# Altium integrated library Linear Technology Power Management Switching Regulator LTC1174-LTC3901.IntLib: 2647 symbols (part 222 of 364)
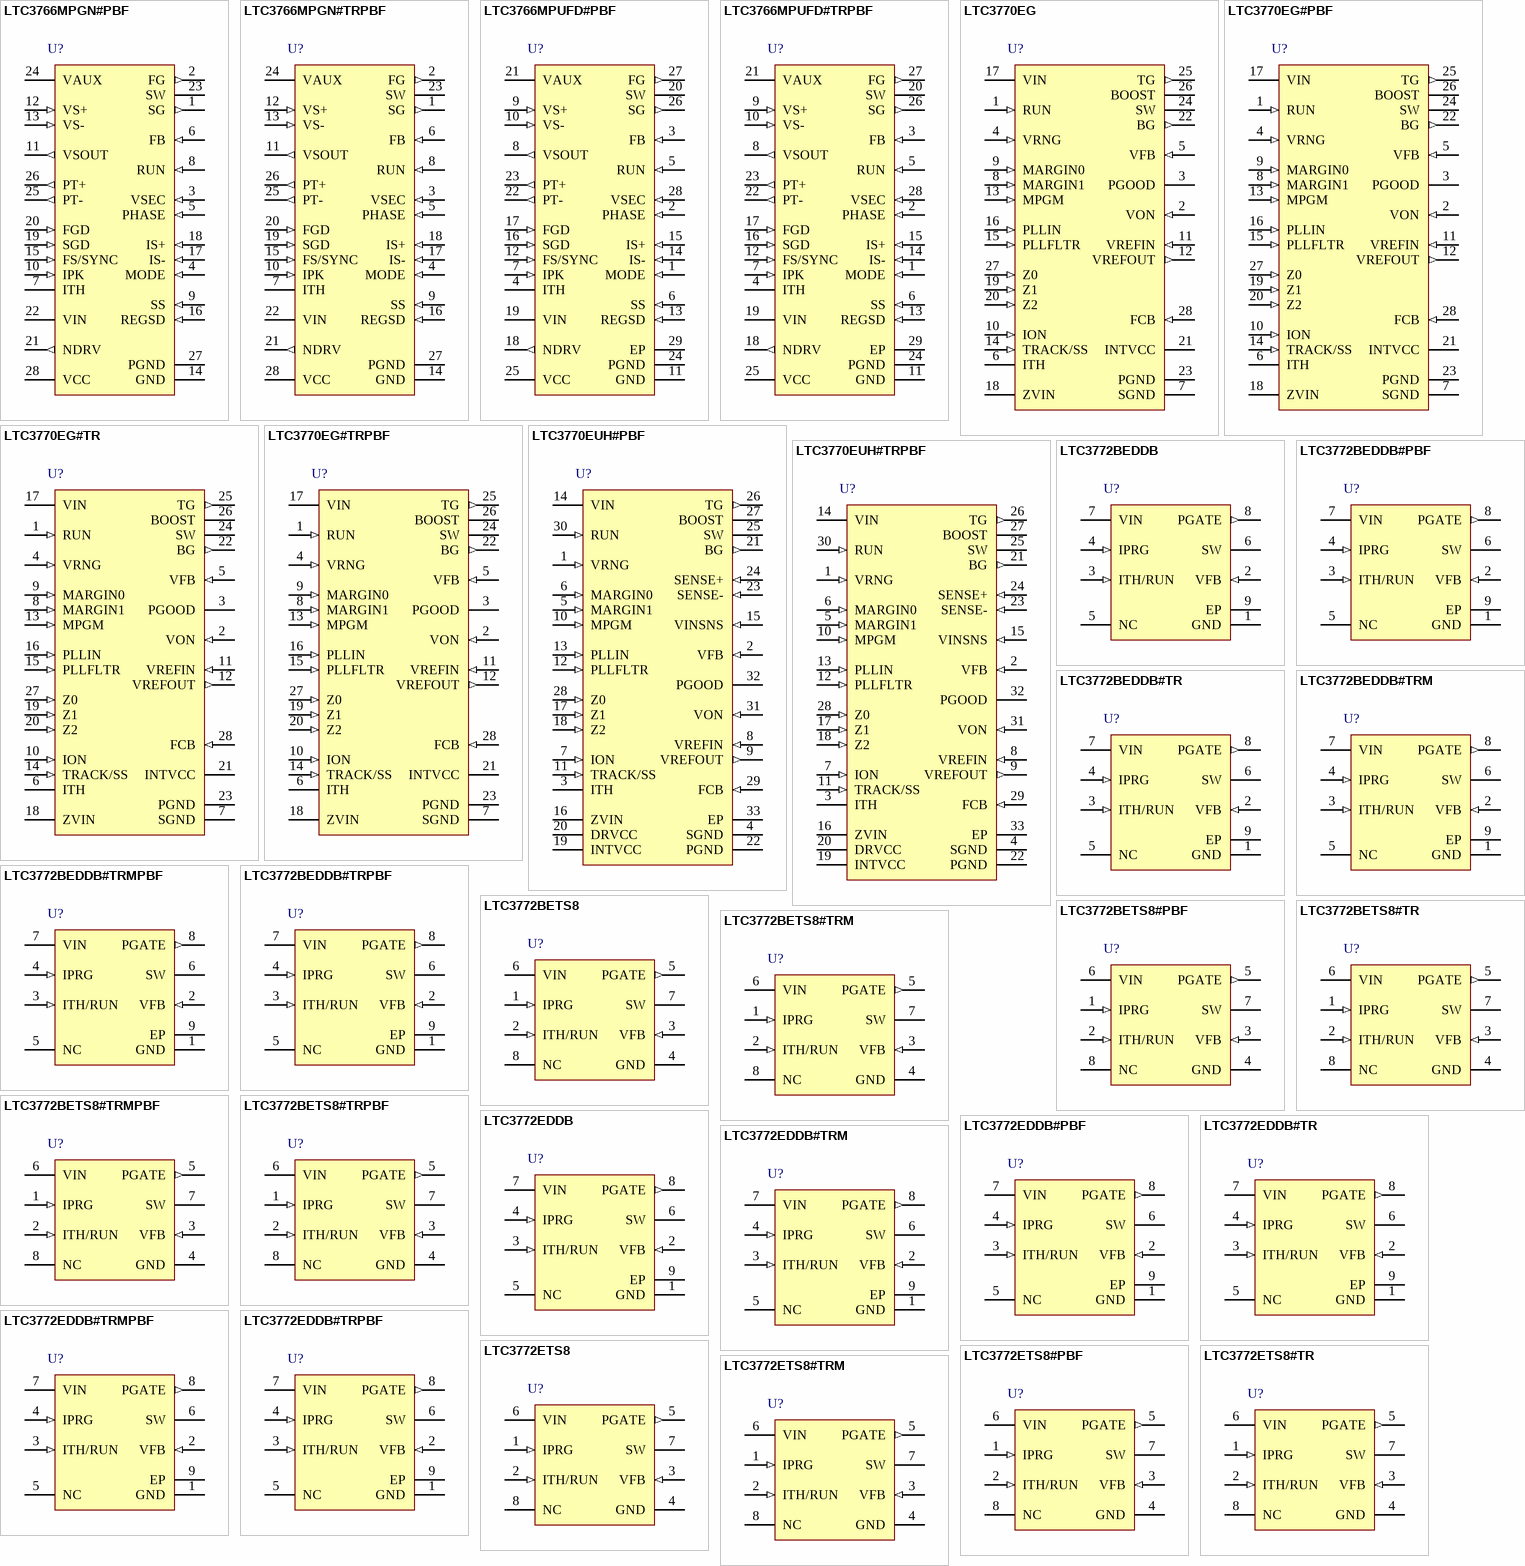
[diagram p230: symbols LTC3766MPGN#PBF to LTC3772ETS8#TRM]

## LTC3772EDDB#TR
designator U?
Micropower No Rsense Constant Frequency Step-Down DC/DC Controller, 8-pin SON (DDB-8), -40 to 85 degC, Tape and Reel; Manufacturer: Linear Technology; PartNumber: LTC3772EDDB#TR; Number of Outputs: 1; PackageVersion: Rev. B, 06/2010; PackageReference: DDB-8; PackageDescription: 8-Pin Plastic DFN, Body 3 x 2 mm, Pitch 0.5 mm; Packing: Tape and Reel; RoHS: FALSE; Mounting Technology: Surface Mount; Code_JEDEC: MO-229; ComponentLink1Description: Manufacturer URL; ComponentLink1URL: http://www.linear.com/; ComponentLink2Description: Datasheet; ComponentLink2URL: http://cds.linear.com/docs/en/datasheet/3772f.pdf; ComponentLink3Description: Package Specification; ComponentLink3URL: http://cds.linear.com/docs/en/packaging/DFN_8_05-08-1702.pdf
footprint LT-DDB-8_V (SON, 8-Leads, Body 3x2mm, Pitch 0.5mm, Thermal Pad 2.2x0.61mm)
pins: 1 GND (power) "Ground Pin.", 2 VFB (in) "Receives the feedback voltage from an external resistor divider across the output.", 3 ITH/RUN (in) "This pin performs two functions. It serves as the error amplifier compensation point as well as the run control input. Nominal voltage range for this pin is 0.7V to 1.9V. Forcing this pin below 0.6V causes the device to be (See Datasheet)", 4 IPRG (in) "Shutdown and external soft-start pin. In shutdown, all functions are disabled and the NGATE pin is held low.", 5 NC "No Connection Required.", 6 SW "Switch Node Connection to Inductor and Current Sense Input Pin. Normally, the external P-channel MOSFET’s drain is connected to this pin.", 7 VIN (power) "Supply and Current Sense Input Pin. This pin must be closely decoupled to GND (Pin 4). Normally the external P-channel MOSFET’s source is connected to this pin.", 8 PGATE (out) "Gate Drive for the External P-Channel MOSFET. This pin swings from 0V to VIN.", 9 EP (power) "The Exposed Pad is ground and must be soldered to the PCB for electrical connection and optimum thermal performance."

## LTC3772EDDB#TRM
designator U?
Micropower No Rsense Constant Frequency Step-Down DC/DC Controller, 8-pin SON (DDB-8), -40 to 85 degC, Mini Tape and Reel; Manufacturer: Linear Technology; PartNumber: LTC3772EDDB#TRM; Number of Outputs: 1; PackageVersion: Rev. B, 06/2010; PackageReference: DDB-8; PackageDescription: 8-Pin Plastic DFN, Body 3 x 2 mm, Pitch 0.5 mm; Packing: Mini Tape and Reel; RoHS: FALSE; Mounting Technology: Surface Mount; Code_JEDEC: MO-229; ComponentLink1Description: Manufacturer URL; ComponentLink1URL: http://www.linear.com/; ComponentLink2Description: Datasheet; ComponentLink2URL: http://cds.linear.com/docs/en/datasheet/3772f.pdf; ComponentLink3Description: Package Specification; ComponentLink3URL: http://cds.linear.com/docs/en/packaging/DFN_8_05-08-1702.pdf
footprint LT-DDB-8_V (SON, 8-Leads, Body 3x2mm, Pitch 0.5mm, Thermal Pad 2.2x0.61mm)
pins: 1 GND (power) "Ground Pin.", 2 VFB (in) "Receives the feedback voltage from an external resistor divider across the output.", 3 ITH/RUN (in) "This pin performs two functions. It serves as the error amplifier compensation point as well as the run control input. Nominal voltage range for this pin is 0.7V to 1.9V. Forcing this pin below 0.6V causes the device to be (See Datasheet)", 4 IPRG (in) "Shutdown and external soft-start pin. In shutdown, all functions are disabled and the NGATE pin is held low.", 5 NC "No Connection Required.", 6 SW "Switch Node Connection to Inductor and Current Sense Input Pin. Normally, the external P-channel MOSFET’s drain is connected to this pin.", 7 VIN (power) "Supply and Current Sense Input Pin. This pin must be closely decoupled to GND (Pin 4). Normally the external P-channel MOSFET’s source is connected to this pin.", 8 PGATE (out) "Gate Drive for the External P-Channel MOSFET. This pin swings from 0V to VIN.", 9 EP (power) "The Exposed Pad is ground and must be soldered to the PCB for electrical connection and optimum thermal performance."

## LTC3772EDDB#TRMPBF
designator U?
Micropower No Rsense Constant Frequency Step-Down DC/DC Controller, 8-pin SON (DDB-8), -40 to 85 degC, Pb-Free, Mini Tape and Reel; Manufacturer: Linear Technology; PartNumber: LTC3772EDDB#TRMPBF; Number of Outputs: 1; PackageVersion: Rev. B, 06/2010; PackageReference: DDB-8; PackageDescription: 8-Pin Plastic DFN, Body 3 x 2 mm, Pitch 0.5 mm; Supplier 1: Digi-Key; Supplier Part Number 1: LTC3772EDDB#TRMPBF-ND; Packing: Mini Tape and Reel; RoHS: TRUE; Mounting Technology: Surface Mount; Code_JEDEC: MO-229; ComponentLink1Description: Manufacturer URL; ComponentLink1URL: http://www.linear.com/; ComponentLink2Description: Datasheet; ComponentLink2URL: http://cds.linear.com/docs/en/datasheet/3772f.pdf; ComponentLink3Description: Package Specification; ComponentLink3URL: http://cds.linear.com/docs/en/packaging/DFN_8_05-08-1702.pdf
footprint LT-DDB-8_V (SON, 8-Leads, Body 3x2mm, Pitch 0.5mm, Thermal Pad 2.2x0.61mm)
pins: 1 GND (power) "Ground Pin.", 2 VFB (in) "Receives the feedback voltage from an external resistor divider across the output.", 3 ITH/RUN (in) "This pin performs two functions. It serves as the error amplifier compensation point as well as the run control input. Nominal voltage range for this pin is 0.7V to 1.9V. Forcing this pin below 0.6V causes the device to be (See Datasheet)", 4 IPRG (in) "Shutdown and external soft-start pin. In shutdown, all functions are disabled and the NGATE pin is held low.", 5 NC "No Connection Required.", 6 SW "Switch Node Connection to Inductor and Current Sense Input Pin. Normally, the external P-channel MOSFET’s drain is connected to this pin.", 7 VIN (power) "Supply and Current Sense Input Pin. This pin must be closely decoupled to GND (Pin 4). Normally the external P-channel MOSFET’s source is connected to this pin.", 8 PGATE (out) "Gate Drive for the External P-Channel MOSFET. This pin swings from 0V to VIN.", 9 EP (power) "The Exposed Pad is ground and must be soldered to the PCB for electrical connection and optimum thermal performance."

## LTC3772EDDB#TRPBF
designator U?
Micropower No Rsense Constant Frequency Step-Down DC/DC Controller, 8-pin SON (DDB-8), -40 to 85 degC, Pb-Free, Tape and Reel; Manufacturer: Linear Technology; PartNumber: LTC3772EDDB#TRPBF; Number of Outputs: 1; PackageVersion: Rev. B, 06/2010; PackageReference: DDB-8; PackageDescription: 8-Pin Plastic DFN, Body 3 x 2 mm, Pitch 0.5 mm; Supplier 1: Digi-Key; Supplier Part Number 1: LTC3772EDDB#TRPBF-ND; Packing: Tape and Reel; RoHS: TRUE; Mounting Technology: Surface Mount; Code_JEDEC: MO-229; ComponentLink1Description: Manufacturer URL; ComponentLink1URL: http://www.linear.com/; ComponentLink2Description: Datasheet; ComponentLink2URL: http://cds.linear.com/docs/en/datasheet/3772f.pdf; ComponentLink3Description: Package Specification; ComponentLink3URL: http://cds.linear.com/docs/en/packaging/DFN_8_05-08-1702.pdf
footprint LT-DDB-8_V (SON, 8-Leads, Body 3x2mm, Pitch 0.5mm, Thermal Pad 2.2x0.61mm)
pins: 1 GND (power) "Ground Pin.", 2 VFB (in) "Receives the feedback voltage from an external resistor divider across the output.", 3 ITH/RUN (in) "This pin performs two functions. It serves as the error amplifier compensation point as well as the run control input. Nominal voltage range for this pin is 0.7V to 1.9V. Forcing this pin below 0.6V causes the device to be (See Datasheet)", 4 IPRG (in) "Shutdown and external soft-start pin. In shutdown, all functions are disabled and the NGATE pin is held low.", 5 NC "No Connection Required.", 6 SW "Switch Node Connection to Inductor and Current Sense Input Pin. Normally, the external P-channel MOSFET’s drain is connected to this pin.", 7 VIN (power) "Supply and Current Sense Input Pin. This pin must be closely decoupled to GND (Pin 4). Normally the external P-channel MOSFET’s source is connected to this pin.", 8 PGATE (out) "Gate Drive for the External P-Channel MOSFET. This pin swings from 0V to VIN.", 9 EP (power) "The Exposed Pad is ground and must be soldered to the PCB for electrical connection and optimum thermal performance."

## LTC3772ETS8
designator U?
Micropower No Rsense Constant Frequency Step-Down DC/DC Controller, 8-pin SOT23 (TS8-8), -40 to 85 degC; Manufacturer: Linear Technology; PartNumber: LTC3772ETS8; Number of Outputs: 1; PackageVersion: Rev. A, 08/2010; PackageReference: TS8-8; PackageDescription: 8-Pin Plastic TSOT-23, Body 2.9 x 1.63 mm, Pitch 0.65 mm; RoHS: FALSE; Mounting Technology: Surface Mount; Code_JEDEC: MO-193; ComponentLink1Description: Manufacturer URL; ComponentLink1URL: http://www.linear.com/; ComponentLink2Description: Datasheet; ComponentLink2URL: http://cds.linear.com/docs/en/datasheet/3772f.pdf; ComponentLink3Description: Package Specification; ComponentLink3URL: http://cds.linear.com/docs/en/packaging/SOT_8_05-08-1637.pdf
footprint LT-TS8-8-TSOT-23_V (SOT23, 8-Leads, Body 2.9x1.75mm, Pitch 0.65mm)
pins: 1 IPRG (in) "Current Sense Limit Pin. Three-state pin selects maximum peak sense voltage threshold. The pin selects the maximum voltage drop across the external P-channel MOSFET.", 2 ITH/RUN (in) "This pin performs two functions. It serves as the error amplifier compensation point as well as the run control input. Nominal voltage range for this pin is 0.7V to 1.9V. Forcing this pin below 0.6V causes the device to be (See Datasheet)", 3 VFB (in) "Receives the feedback voltage from an external resistor divider across the output.", 4 GND (power) "Ground Pin.", 5 PGATE (out) "Gate Drive for the External P-Channel MOSFET. This pin swings from 0V to VIN.", 6 VIN (power) "Supply and Current Sense Input Pin. This pin must be closely decoupled to GND (Pin 4). Normally the external P-channel MOSFET’s source is connected to this pin.", 7 SW "Switch Node Connection to Inductor and Current Sense Input Pin. Normally, the external P-channel MOSFET’s drain is connected to this pin.", 8 NC "No Connection Required."

## LTC3772ETS8#PBF
designator U?
Micropower No Rsense Constant Frequency Step-Down DC/DC Controller, 8-pin SOT23 (TS8-8), -40 to 85 degC, Pb-Free; Manufacturer: Linear Technology; PartNumber: LTC3772ETS8#PBF; Number of Outputs: 1; PackageVersion: Rev. A, 08/2010; PackageReference: TS8-8; PackageDescription: 8-Pin Plastic TSOT-23, Body 2.9 x 1.63 mm, Pitch 0.65 mm; RoHS: TRUE; Mounting Technology: Surface Mount; Code_JEDEC: MO-193; ComponentLink1Description: Manufacturer URL; ComponentLink1URL: http://www.linear.com/; ComponentLink2Description: Datasheet; ComponentLink2URL: http://cds.linear.com/docs/en/datasheet/3772f.pdf; ComponentLink3Description: Package Specification; ComponentLink3URL: http://cds.linear.com/docs/en/packaging/SOT_8_05-08-1637.pdf
footprint LT-TS8-8-TSOT-23_V (SOT23, 8-Leads, Body 2.9x1.75mm, Pitch 0.65mm)
pins: 1 IPRG (in) "Current Sense Limit Pin. Three-state pin selects maximum peak sense voltage threshold. The pin selects the maximum voltage drop across the external P-channel MOSFET.", 2 ITH/RUN (in) "This pin performs two functions. It serves as the error amplifier compensation point as well as the run control input. Nominal voltage range for this pin is 0.7V to 1.9V. Forcing this pin below 0.6V causes the device to be (See Datasheet)", 3 VFB (in) "Receives the feedback voltage from an external resistor divider across the output.", 4 GND (power) "Ground Pin.", 5 PGATE (out) "Gate Drive for the External P-Channel MOSFET. This pin swings from 0V to VIN.", 6 VIN (power) "Supply and Current Sense Input Pin. This pin must be closely decoupled to GND (Pin 4). Normally the external P-channel MOSFET’s source is connected to this pin.", 7 SW "Switch Node Connection to Inductor and Current Sense Input Pin. Normally, the external P-channel MOSFET’s drain is connected to this pin.", 8 NC "No Connection Required."

## LTC3772ETS8#TR
designator U?
Micropower No Rsense Constant Frequency Step-Down DC/DC Controller, 8-pin SOT23 (TS8-8), -40 to 85 degC, Tape and Reel; Manufacturer: Linear Technology; PartNumber: LTC3772ETS8#TR; Number of Outputs: 1; PackageVersion: Rev. A, 08/2010; PackageReference: TS8-8; PackageDescription: 8-Pin Plastic TSOT-23, Body 2.9 x 1.63 mm, Pitch 0.65 mm; Packing: Tape and Reel; RoHS: FALSE; Mounting Technology: Surface Mount; Code_JEDEC: MO-193; ComponentLink1Description: Manufacturer URL; ComponentLink1URL: http://www.linear.com/; ComponentLink2Description: Datasheet; ComponentLink2URL: http://cds.linear.com/docs/en/datasheet/3772f.pdf; ComponentLink3Description: Package Specification; ComponentLink3URL: http://cds.linear.com/docs/en/packaging/SOT_8_05-08-1637.pdf
footprint LT-TS8-8-TSOT-23_V (SOT23, 8-Leads, Body 2.9x1.75mm, Pitch 0.65mm)
pins: 1 IPRG (in) "Current Sense Limit Pin. Three-state pin selects maximum peak sense voltage threshold. The pin selects the maximum voltage drop across the external P-channel MOSFET.", 2 ITH/RUN (in) "This pin performs two functions. It serves as the error amplifier compensation point as well as the run control input. Nominal voltage range for this pin is 0.7V to 1.9V. Forcing this pin below 0.6V causes the device to be (See Datasheet)", 3 VFB (in) "Receives the feedback voltage from an external resistor divider across the output.", 4 GND (power) "Ground Pin.", 5 PGATE (out) "Gate Drive for the External P-Channel MOSFET. This pin swings from 0V to VIN.", 6 VIN (power) "Supply and Current Sense Input Pin. This pin must be closely decoupled to GND (Pin 4). Normally the external P-channel MOSFET’s source is connected to this pin.", 7 SW "Switch Node Connection to Inductor and Current Sense Input Pin. Normally, the external P-channel MOSFET’s drain is connected to this pin.", 8 NC "No Connection Required."

## LTC3772ETS8#TRM
designator U?
Micropower No Rsense Constant Frequency Step-Down DC/DC Controller, 8-pin SOT23 (TS8-8), -40 to 85 degC, Mini Tape and Reel; Manufacturer: Linear Technology; PartNumber: LTC3772ETS8#TRM; Number of Outputs: 1; PackageVersion: Rev. A, 08/2010; PackageReference: TS8-8; PackageDescription: 8-Pin Plastic TSOT-23, Body 2.9 x 1.63 mm, Pitch 0.65 mm; Packing: Mini Tape and Reel; RoHS: FALSE; Mounting Technology: Surface Mount; Code_JEDEC: MO-193; ComponentLink1Description: Manufacturer URL; ComponentLink1URL: http://www.linear.com/; ComponentLink2Description: Datasheet; ComponentLink2URL: http://cds.linear.com/docs/en/datasheet/3772f.pdf; ComponentLink3Description: Package Specification; ComponentLink3URL: http://cds.linear.com/docs/en/packaging/SOT_8_05-08-1637.pdf
footprint LT-TS8-8-TSOT-23_V (SOT23, 8-Leads, Body 2.9x1.75mm, Pitch 0.65mm)
pins: 1 IPRG (in) "Current Sense Limit Pin. Three-state pin selects maximum peak sense voltage threshold. The pin selects the maximum voltage drop across the external P-channel MOSFET.", 2 ITH/RUN (in) "This pin performs two functions. It serves as the error amplifier compensation point as well as the run control input. Nominal voltage range for this pin is 0.7V to 1.9V. Forcing this pin below 0.6V causes the device to be (See Datasheet)", 3 VFB (in) "Receives the feedback voltage from an external resistor divider across the output.", 4 GND (power) "Ground Pin.", 5 PGATE (out) "Gate Drive for the External P-Channel MOSFET. This pin swings from 0V to VIN.", 6 VIN (power) "Supply and Current Sense Input Pin. This pin must be closely decoupled to GND (Pin 4). Normally the external P-channel MOSFET’s source is connected to this pin.", 7 SW "Switch Node Connection to Inductor and Current Sense Input Pin. Normally, the external P-channel MOSFET’s drain is connected to this pin.", 8 NC "No Connection Required."

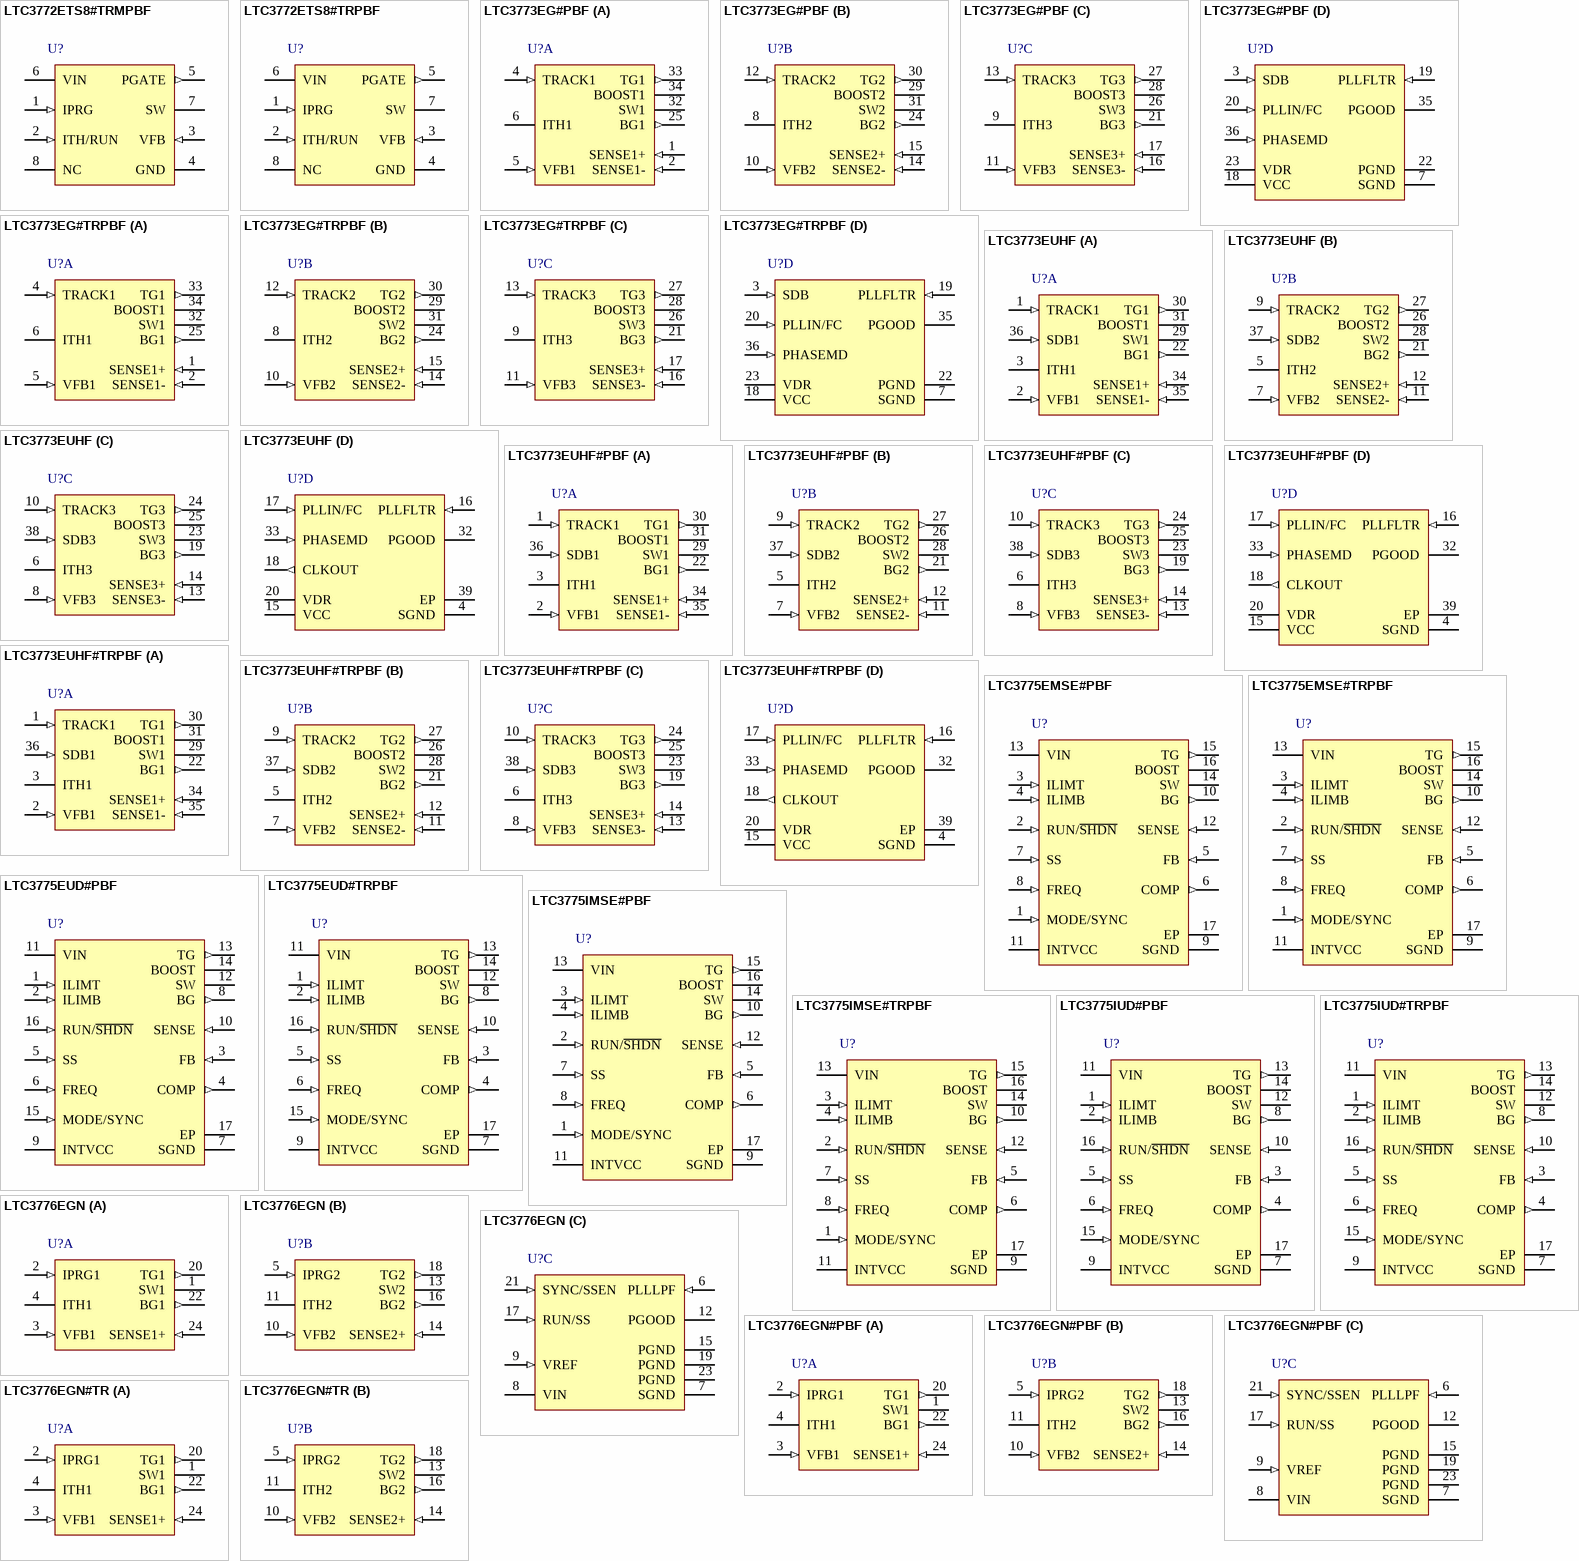
[diagram p69: symbols LTC3772ETS8#TRMPBF to LTC3776EGN#TR]

## LTC3772ETS8#TRMPBF
designator U?
Micropower No Rsense Constant Frequency Step-Down DC/DC Controller, 8-pin SOT23 (TS8-8), -40 to 85 degC, Pb-Free, Mini Tape and Reel; Manufacturer: Linear Technology; PartNumber: LTC3772ETS8#TRMPBF; Number of Outputs: 1; PackageVersion: Rev. A, 08/2010; PackageReference: TS8-8; PackageDescription: 8-Pin Plastic TSOT-23, Body 2.9 x 1.63 mm, Pitch 0.65 mm; Supplier 1: Digi-Key; Supplier Part Number 1: LTC3772ETS8#TRMPBF-ND; Packing: Mini Tape and Reel; RoHS: TRUE; Mounting Technology: Surface Mount; Code_JEDEC: MO-193; ComponentLink1Description: Manufacturer URL; ComponentLink1URL: http://www.linear.com/; ComponentLink2Description: Datasheet; ComponentLink2URL: http://cds.linear.com/docs/en/datasheet/3772f.pdf; ComponentLink3Description: Package Specification; ComponentLink3URL: http://cds.linear.com/docs/en/packaging/SOT_8_05-08-1637.pdf
footprint LT-TS8-8-TSOT-23_V (SOT23, 8-Leads, Body 2.9x1.75mm, Pitch 0.65mm)
pins: 1 IPRG (in) "Current Sense Limit Pin. Three-state pin selects maximum peak sense voltage threshold. The pin selects the maximum voltage drop across the external P-channel MOSFET.", 2 ITH/RUN (in) "This pin performs two functions. It serves as the error amplifier compensation point as well as the run control input. Nominal voltage range for this pin is 0.7V to 1.9V. Forcing this pin below 0.6V causes the device to be (See Datasheet)", 3 VFB (in) "Receives the feedback voltage from an external resistor divider across the output.", 4 GND (power) "Ground Pin.", 5 PGATE (out) "Gate Drive for the External P-Channel MOSFET. This pin swings from 0V to VIN.", 6 VIN (power) "Supply and Current Sense Input Pin. This pin must be closely decoupled to GND (Pin 4). Normally the external P-channel MOSFET’s source is connected to this pin.", 7 SW "Switch Node Connection to Inductor and Current Sense Input Pin. Normally, the external P-channel MOSFET’s drain is connected to this pin.", 8 NC "No Connection Required."

## LTC3772ETS8#TRPBF
designator U?
Micropower No Rsense Constant Frequency Step-Down DC/DC Controller, 8-pin SOT23 (TS8-8), -40 to 85 degC, Pb-Free, Tape and Reel; Manufacturer: Linear Technology; PartNumber: LTC3772ETS8#TRPBF; Number of Outputs: 1; PackageVersion: Rev. A, 08/2010; PackageReference: TS8-8; PackageDescription: 8-Pin Plastic TSOT-23, Body 2.9 x 1.63 mm, Pitch 0.65 mm; Supplier 1: Digi-Key; Supplier Part Number 1: LTC3772ETS8#TRPBF-ND; Packing: Tape and Reel; RoHS: TRUE; Mounting Technology: Surface Mount; Code_JEDEC: MO-193; ComponentLink1Description: Manufacturer URL; ComponentLink1URL: http://www.linear.com/; ComponentLink2Description: Datasheet; ComponentLink2URL: http://cds.linear.com/docs/en/datasheet/3772f.pdf; ComponentLink3Description: Package Specification; ComponentLink3URL: http://cds.linear.com/docs/en/packaging/SOT_8_05-08-1637.pdf
footprint LT-TS8-8-TSOT-23_V (SOT23, 8-Leads, Body 2.9x1.75mm, Pitch 0.65mm)
pins: 1 IPRG (in) "Current Sense Limit Pin. Three-state pin selects maximum peak sense voltage threshold. The pin selects the maximum voltage drop across the external P-channel MOSFET.", 2 ITH/RUN (in) "This pin performs two functions. It serves as the error amplifier compensation point as well as the run control input. Nominal voltage range for this pin is 0.7V to 1.9V. Forcing this pin below 0.6V causes the device to be (See Datasheet)", 3 VFB (in) "Receives the feedback voltage from an external resistor divider across the output.", 4 GND (power) "Ground Pin.", 5 PGATE (out) "Gate Drive for the External P-Channel MOSFET. This pin swings from 0V to VIN.", 6 VIN (power) "Supply and Current Sense Input Pin. This pin must be closely decoupled to GND (Pin 4). Normally the external P-channel MOSFET’s source is connected to this pin.", 7 SW "Switch Node Connection to Inductor and Current Sense Input Pin. Normally, the external P-channel MOSFET’s drain is connected to this pin.", 8 NC "No Connection Required."

## LTC3773EG#PBF
designator U?
Triple Output Synchronous 3-Phase DC/DC Controller with Up / Down Tracking, 36-pin SOP (G-36), -40 to 85 degC, Pb-Free; Manufacturer: Linear Technology; PartNumber: LTC3773EG#PBF; Frequency Sync Range: 160kHz - 700kHz; Number of Outputs: 2; DatasheetVersion: Rev. B; PackageReference: G-36; PackageDescription: 36-Pin Plastic SSOP, Body 12.8 x 5.3 mm, Pitch 0.65 mm; Supplier 1: Digi-Key; Supplier Part Number 1: LTC3773EG#PBF-ND; Supplier 2: Farnell; Supplier Part Number 2: 1329366; Supplier 3: Newark; Supplier Part Number 3: 56M8378; RoHS: TRUE; Mounting Technology: Surface Mount; ComponentLink1Description: Manufacturer URL; ComponentLink1URL: http://www.linear.com/; ComponentLink2Description: Datasheet; ComponentLink2URL: http://cds.linear.com/docs/en/datasheet/3773fb.pdf; ComponentLink3Description: Package Specification; ComponentLink3URL: http://cds.linear.com/docs/en/packaging/SSOP_36_05-08-1640.pdf
footprint LT-G-36_N (SOP, 36-Leads, Body 13.1x5.6mm, Pitch 0.65mm, IPC Medium Density)
footprint LT-G-36_L (SOP, 36-Leads, Body 13.1x5.6mm, Pitch 0.65mm, IPC High Density)
footprint LT-G-36_M (SOP, 36-Leads, Body 13.1x5.6mm, Pitch 0.65mm, IPC Low Density)
part A pins: 1 SENSE1+ (in) "The (+) Input to the Channel 1 Differential Current Comparator. The ITH1 pin voltage and controlled offsets between the SENSE1- and SENSE1+ pins in conjunction with RSENSE set the channel 1 current trip threshold.", 2 SENSE1- (in) "The (-) Input to the Channel 1 Differential Current Comparator.", 4 TRACK1 (in) "Channel 1 Tracking Input. TRACK1 is used for tracking multiple LTC3773s. See the Startup Tracking application. To disable this feature, float this pin or tie it to VCC. TRACK1 provides a 1uA pull-up current. An external (See Datasheet)", 5 VFB1 (in) "Channel 1 Error Amplifier Feedback Input. This pin connects the error amplifi er input to an external resistive divider from VOUT1.", 6 ITH1 "Channel 1 Error Amplifier Output and Switching Regulator Compensation Point. The current comparator’s threshold increases with this control voltage.", 25 BG1 (out) "Channel 1 Bottom Gate Drive. Drives the gate of the bottom N-channel MOSFET between ground and VDR.", 32 SW1 "Channel 1 Switching Node. The (-) terminal of the bootstrap capacitor connects here. This pin swings from a Schottky diode (external) voltage drop below ground to VIN (where VIN is the external MOSFET supply rail).", 33 TG1 (out) "Channel 1 Top Gate Drive. The TG1 pin drives the top N-channel MOSFET with a voltage swing equal to VDR superimposed on the switch node voltage SW.", 34 BOOST1 "Channel 1 Top Gate Driver Supply. The (+) terminal of the bootstrap capacitor connects here. This pin swings from approximately VDR up to VIN + VDR (where VIN is the external MOSFET supply rail)."
part B pins: 8 ITH2 "Channel 2 Error Amplifier Output and Switching Regulator Compensation Point. See ITH1.", 10 VFB2 (in) "Channel 2 Error Amplifier Feedback Input. See VFB1.", 12 TRACK2 (in) "Channel 2 Tracking Input. Tie the TRACK2 pin to a resistive divider connected to the output of channel 1 for either coincident or ratiometric output tracking. See the Soft-Start/Tracking application. TRACK2 comes with a 1uA (See Datasheet)", 14 SENSE2- (in) "The (-) Input to the Channel 2 Differential Current Comparator. See SENSE1-.", 15 SENSE2+ (in) "The (+) Input to the Channel 2 Differential Current Comparator. See SENSE1+.", 24 BG2 (out) "Channel 2 Bottom Gate Drive. See BG1.", 29 BOOST2 "Channel 2 Top Gate Driver Supply. See BOOST1.", 30 TG2 (out) "Channel 2 Top Gate Drive. See TG1.", 31 SW2 "Channel 2 Switching Node. See SW1."
part C pins: 9 ITH3 "Channel 3 Error Amplifier Output and Switching Regulator Compensation Point. See ITH1.", 11 VFB3 (in) "Channel 3 Error Amplifier Feedback Input. See VFB1.", 13 TRACK3 (in) "Channel 3 Tracking Input. See TRACK2.", 16 SENSE3- (in) "The (-) Input to the Channel 3 Differential Current Comparator. See SENSE1-.", 17 SENSE3+ (in) "The (+) Input to the Channel 3 Differential Current Comparator. See SENSE1+.", 21 BG3 (out) "Channel 3 Bottom Gate Drive. See BG1.", 26 SW3 "Channel 3 Switching Node. See SW1.", 27 TG3 (out) "Channel 3 Top Gate Drive. See TG1.", 28 BOOST3 "Channel 3 Top Gate Driver Supply. See BOOST1."
part D pins: 3 SDB (in) "Shutdown, Active Low. For G package, SDB1, SDB2 and SDB3 are shorted at the SDB pin. The power up thresholds for channel 1, 2 and 3 are set at 1.2V, 1.8V and 2.4V respectively. By pulling the SDB1, SDB2 and SDB3 pins below 0.(See Datasheet)", 7 SGND (power) "Signal Ground. This pin must be routed separately under the IC to the PGND pin and then to the main ground plane.", 18 VCC (power) "Main Input Supply. All internal circuits except the output drivers are powered from this pin. VCC should be connected to a low noise 5V power supply and should be bypassed to SGND with at least a 1uF capacitor in close (See Datasheet)", 19 PLLFLTR (in) "Phase-Locked Loop Lowpass Filter. The phase-locked loop’s lowpass filter is tied to this pin. Alternatively, when external frequency synchronizing is not used, this pin can be forced low, left floating or tied high to var(See Datasheet)", 20 PLLIN/FC (in) "Synchronization Input to the Phase Detector and Forced Continuous Control Input. When fl oating, it sits around 1.6V, and the controller enters discontinuous mode operation at light load. Shorting this pin low or high for (See Datasheet)", 22 PGND (power) "Driver’s Power Ground. This pin connects directly to the sources of the bottom N-channel external MOSFETs and the (-) terminals of CIN. The backside exposed pad (QFN) must be soldered to PCB ground.", 23 VDR (power) "Driver Supply. Provides supply to the drivers for the bottom gates. Also used for charging the bootstrap capacitors. This pin needs to be very carefully and closely decoupled to the IC’s PGND pin. If the VDR potential i(See Datasheet)", 35 PGOOD (oc) "Open Drain Power Good Output. This open-drain output is pulled low during shutdown or when any of the three output voltages has been outside the PGOOD tolerance window for more than 100us.", 36 PHASEMD (in) "Phase Select Input. This pin controls the phase relationship between controller 1, controller 2, controller 3 and CLKOUT. When PHASEMD is floating, its value is around 1.6V, the three channels switch 120degrees out of phase, (See Datasheet)"

## LTC3773EG#TRPBF
designator U?
Triple Output Synchronous 3-Phase DC/DC Controller with Up / Down Tracking, 36-pin SOP (G-36), -40 to 85 degC, Pb-Free, Tape and Reel; Manufacturer: Linear Technology; PartNumber: LTC3773EG#TRPBF; Frequency Sync Range: 160kHz - 700kHz; Number of Outputs: 2; DatasheetVersion: Rev. B; PackageReference: G-36; PackageDescription: 36-Pin Plastic SSOP, Body 12.8 x 5.3 mm, Pitch 0.65 mm; Supplier 1: Digi-Key; Supplier Part Number 1: LTC3773EG#TRPBF-ND; Packing: Tape and Reel; RoHS: TRUE; Mounting Technology: Surface Mount; ComponentLink1Description: Manufacturer URL; ComponentLink1URL: http://www.linear.com/; ComponentLink2Description: Datasheet; ComponentLink2URL: http://cds.linear.com/docs/en/datasheet/3773fb.pdf; ComponentLink3Description: Package Specification; ComponentLink3URL: http://cds.linear.com/docs/en/packaging/SSOP_36_05-08-1640.pdf
footprint LT-G-36_N (SOP, 36-Leads, Body 13.1x5.6mm, Pitch 0.65mm, IPC Medium Density)
footprint LT-G-36_L (SOP, 36-Leads, Body 13.1x5.6mm, Pitch 0.65mm, IPC High Density)
footprint LT-G-36_M (SOP, 36-Leads, Body 13.1x5.6mm, Pitch 0.65mm, IPC Low Density)
part A pins: 1 SENSE1+ (in) "The (+) Input to the Channel 1 Differential Current Comparator. The ITH1 pin voltage and controlled offsets between the SENSE1- and SENSE1+ pins in conjunction with RSENSE set the channel 1 current trip threshold.", 2 SENSE1- (in) "The (-) Input to the Channel 1 Differential Current Comparator.", 4 TRACK1 (in) "Channel 1 Tracking Input. TRACK1 is used for tracking multiple LTC3773s. See the Startup Tracking application. To disable this feature, float this pin or tie it to VCC. TRACK1 provides a 1uA pull-up current. An external (See Datasheet)", 5 VFB1 (in) "Channel 1 Error Amplifier Feedback Input. This pin connects the error amplifi er input to an external resistive divider from VOUT1.", 6 ITH1 "Channel 1 Error Amplifier Output and Switching Regulator Compensation Point. The current comparator’s threshold increases with this control voltage.", 25 BG1 (out) "Channel 1 Bottom Gate Drive. Drives the gate of the bottom N-channel MOSFET between ground and VDR.", 32 SW1 "Channel 1 Switching Node. The (-) terminal of the bootstrap capacitor connects here. This pin swings from a Schottky diode (external) voltage drop below ground to VIN (where VIN is the external MOSFET supply rail).", 33 TG1 (out) "Channel 1 Top Gate Drive. The TG1 pin drives the top N-channel MOSFET with a voltage swing equal to VDR superimposed on the switch node voltage SW.", 34 BOOST1 "Channel 1 Top Gate Driver Supply. The (+) terminal of the bootstrap capacitor connects here. This pin swings from approximately VDR up to VIN + VDR (where VIN is the external MOSFET supply rail)."
part B pins: 8 ITH2 "Channel 2 Error Amplifier Output and Switching Regulator Compensation Point. See ITH1.", 10 VFB2 (in) "Channel 2 Error Amplifier Feedback Input. See VFB1.", 12 TRACK2 (in) "Channel 2 Tracking Input. Tie the TRACK2 pin to a resistive divider connected to the output of channel 1 for either coincident or ratiometric output tracking. See the Soft-Start/Tracking application. TRACK2 comes with a 1uA (See Datasheet)", 14 SENSE2- (in) "The (-) Input to the Channel 2 Differential Current Comparator. See SENSE1-.", 15 SENSE2+ (in) "The (+) Input to the Channel 2 Differential Current Comparator. See SENSE1+.", 24 BG2 (out) "Channel 2 Bottom Gate Drive. See BG1.", 29 BOOST2 "Channel 2 Top Gate Driver Supply. See BOOST1.", 30 TG2 (out) "Channel 2 Top Gate Drive. See TG1.", 31 SW2 "Channel 2 Switching Node. See SW1."
part C pins: 9 ITH3 "Channel 3 Error Amplifier Output and Switching Regulator Compensation Point. See ITH1.", 11 VFB3 (in) "Channel 3 Error Amplifier Feedback Input. See VFB1.", 13 TRACK3 (in) "Channel 3 Tracking Input. See TRACK2.", 16 SENSE3- (in) "The (-) Input to the Channel 3 Differential Current Comparator. See SENSE1-.", 17 SENSE3+ (in) "The (+) Input to the Channel 3 Differential Current Comparator. See SENSE1+.", 21 BG3 (out) "Channel 3 Bottom Gate Drive. See BG1.", 26 SW3 "Channel 3 Switching Node. See SW1.", 27 TG3 (out) "Channel 3 Top Gate Drive. See TG1.", 28 BOOST3 "Channel 3 Top Gate Driver Supply. See BOOST1."
part D pins: 3 SDB (in) "Shutdown, Active Low. For G package, SDB1, SDB2 and SDB3 are shorted at the SDB pin. The power up thresholds for channel 1, 2 and 3 are set at 1.2V, 1.8V and 2.4V respectively. By pulling the SDB1, SDB2 and SDB3 pins below 0.(See Datasheet)", 7 SGND (power) "Signal Ground. This pin must be routed separately under the IC to the PGND pin and then to the main ground plane.", 18 VCC (power) "Main Input Supply. All internal circuits except the output drivers are powered from this pin. VCC should be connected to a low noise 5V power supply and should be bypassed to SGND with at least a 1uF capacitor in close (See Datasheet)", 19 PLLFLTR (in) "Phase-Locked Loop Lowpass Filter. The phase-locked loop’s lowpass filter is tied to this pin. Alternatively, when external frequency synchronizing is not used, this pin can be forced low, left floating or tied high to var(See Datasheet)", 20 PLLIN/FC (in) "Synchronization Input to the Phase Detector and Forced Continuous Control Input. When fl oating, it sits around 1.6V, and the controller enters discontinuous mode operation at light load. Shorting this pin low or high for (See Datasheet)", 22 PGND (power) "Driver’s Power Ground. This pin connects directly to the sources of the bottom N-channel external MOSFETs and the (-) terminals of CIN. The backside exposed pad (QFN) must be soldered to PCB ground.", 23 VDR (power) "Driver Supply. Provides supply to the drivers for the bottom gates. Also used for charging the bootstrap capacitors. This pin needs to be very carefully and closely decoupled to the IC’s PGND pin. If the VDR potential i(See Datasheet)", 35 PGOOD (oc) "Open Drain Power Good Output. This open-drain output is pulled low during shutdown or when any of the three output voltages has been outside the PGOOD tolerance window for more than 100us.", 36 PHASEMD (in) "Phase Select Input. This pin controls the phase relationship between controller 1, controller 2, controller 3 and CLKOUT. When PHASEMD is floating, its value is around 1.6V, the three channels switch 120degrees out of phase, (See Datasheet)"

## LTC3773EUHF
designator U?
Triple Output Synchronous 3-Phase DC/DC Controller with Up / Down Tracking, 38-pin QFN (UHF-38), -40 to 85 degC; Manufacturer: Linear Technology; PartNumber: LTC3773EUHF; Frequency Sync Range: 160kHz - 700kHz; Number of Outputs: 2; DatasheetVersion: Rev. B; PackageVersion: Rev. C, 06/2010; PackageReference: UHF-38; PackageDescription: 38-Pin Plastic QFN, Body 7 x 5 mm, Pitch 0.5 mm; RoHS: FALSE; Mounting Technology: Surface Mount; Code_JEDEC: MO-220; ComponentLink1Description: Manufacturer URL; ComponentLink1URL: http://www.linear.com/; ComponentLink2Description: Datasheet; ComponentLink2URL: http://cds.linear.com/docs/en/datasheet/3773fb.pdf; ComponentLink3Description: Package Specification; ComponentLink3URL: http://cds.linear.com/docs/en/packaging/QFN_38_05-08-1701.pdf
footprint LT-UHF-38_N (QFN, 38-Leads, Body 7.1x5.1mm, Pitch 0.5mm, Thermal Pad 3.15x5.15mm, IPC Medium Density)
footprint LT-UHF-38_L (QFN, 38-Leads, Body 7.1x5.1mm, Pitch 0.5mm, Thermal Pad 3.15x5.15mm, IPC High Density)
footprint LT-UHF-38_M (QFN, 38-Leads, Body 7.1x5.1mm, Pitch 0.5mm, Thermal Pad 3.15x5.15mm, IPC Low Density)
part A pins: 1 TRACK1 (in) "Channel 1 Tracking Input. TRACK1 is used for tracking multiple LTC3773s. See the Startup Tracking application. To disable this feature, ?oat this pin or tie it to VCC. TRACK1 provides a 1uA pull-up current. An externa(See Datasheet)", 2 VFB1 (in) "Channel 1 Error Ampli?er Feedback Input. This pin connects the error ampli?er input to an external resistive divider from VOUT1.", 3 ITH1 "Channel 1 Error Ampli?er Output and Switching Regulator Compensation Point. The current comparator’s threshold increases with this control voltage.", 22 BG1 (out) "Channel 1 Bottom Gate Drive. Drives the gate of the bottom N-channel MOSFET between ground and VDR.", 29 SW1 "Channel 1 Switching Node. The (-) terminal of the bootstrap capacitor connects here. This pin swings from a Schottky diode (external) voltage drop below ground to VIN (where VIN is the external MOSFET supply rail)", 30 TG1 (out) "Channel 1 Top Gate Drive. The TG1 pin drives the top N-channel MOSFET with a voltage swing equal to VDR superimposed on the switch node voltage SW.", 31 BOOST1 "Channel 1 Top Gate Driver Supply. The (+) terminal of the bootstrap capacitor connects here. This pin swings from approximately VDR up to VIN + VDR (where VIN is the external MOSFET supply rail).", 34 SENSE1+ (in) "The (+) Input to the Channel 1 Differential Current Comparator. The ITH1 pin voltage and controlled offsets between the SENSE1- and SENSE1+ pins in conjunction with RSENSE set the channel 1 current trip threshold", 35 SENSE1- (in) "The (-) Input to the Channel 1 Differential Current Comparator.", 36 SDB1 (in) "Shutdown, Active Low. For G package, SDB1, SDB2 and SDB3 are shorted at the SDB pin. The power up thresholds for channel 1, 2 and 3 are set at 1.2V, 1.8V and 2.4V respectively. By pulling the SDB1, SDB2 and SDB3 pins below 0.(See Datasheet)"
part B pins: 5 ITH2 "Channel 2 Error Ampli?er Output and Switching Regulator Compensation Point. See ITH1.", 7 VFB2 (in) "Channel 2 Error Ampli?er Feedback Input. See VFB1.", 9 TRACK2 (in) "Channel 2 Tracking Input. Tie the TRACK2 pin to a resistive divider connected to the output of channel 1 for either coincident or ratiometric output tracking. See the Soft-Start/Tracking application. TRACK2 comes with a 1uA (See Datasheet)", 11 SENSE2- (in) "The (-) Input to the Channel 2 Differential Current Comparator. See SENSE1- .", 12 SENSE2+ (in) "The (+) Input to the Channel 2 Differential Current Comparator. See SENSE1+ .", 21 BG2 (out) "Channel 2 Bottom Gate Drive. See BG1", 26 BOOST2 "Channel 2 Top Gate Driver Supply. See BOOST1.", 27 TG2 (out) "Channel 2 Top Gate Drive. See TG1.", 28 SW2 "Channel 2 Switching Node. See SW1.", 37 SDB2 (in) "Shutdown, Active Low. For G package, SDB1, SDB2 and SDB3 are shorted at the SDB pin. The power up thresholds for channel 1, 2 and 3 are set at 1.2V, 1.8V and 2.4V respectively. By pulling the SDB1, SDB2 and SDB3 pins below 0.(See Datasheet)"
part C pins: 6 ITH3 "Channel 3 Error Ampli?er Output and Switching Regulator Compensation Point. See ITH1.", 8 VFB3 (in) "Channel 3 Error Ampli?er Feedback Input. See VFB1.", 10 TRACK3 (in) "Channel 3 Tracking Input. See TRACK2.", 13 SENSE3- (in) "The (-) Input to the Channel 3 Differential Current Comparator. See SENSE1- .", 14 SENSE3+ (in) "The (+) Input to the Channel 3 Differential Current Comparator. See SENSE1+ .", 19 BG3 (out) "Channel 3 Bottom Gate Drive. See BG1.", 23 SW3 "Channel 3 Switching Node. See SW1.", 24 TG3 (out) "Channel 3 Top Gate Drive. See TG1.", 25 BOOST3 "Channel 3 Top Gate Driver Supply. See BOOST1.", 38 SDB3 (in) "Shutdown, Active Low. For G package, SDB1, SDB2 and SDB3 are shorted at the SDB pin. The power up thresholds for channel 1, 2 and 3 are set at 1.2V, 1.8V and 2.4V respectively. By pulling the SDB1, SDB2 and SDB3 pins below 0.(See Datasheet)"
part D pins: 4 SGND (power) "Signal Ground. This pin must be routed separately under the IC to the PGND pin and then to the main ground plane.", 15 VCC (power) "Main Input Supply. All internal circuits except the output drivers are powered from this pin. VCC should be connected to a low noise 5V power supply and should be bypassed to SGND with at least a 1uF capacitor in close (See Datasheet)", 16 PLLFLTR (in) "Phase-Locked Loop Lowpass Filter. The phase-locked loop’s lowpass ? lter is tied to this pin. Alternatively, when external frequency synchronizing is not used, this pin can be forced low, left ?oating or tied hi(See Datasheet)", 17 PLLIN/FC (in) "Synchronization Input to the Phase Detector and Forced Continuous Control Input. When ?oating, it sits around 1.6V, and the controller enters discontinuous mode operation at light load. Shorting this pin low or high fo(See Datasheet)", 18 CLKOUT (out) "CLK Output. Output clock signal available to synchronize other controller ICs for additional MOSFET controller stages/phases", 20 VDR (power) "Driver Supply. Provides supply to the drivers for the bottom gates. Also used for charging the bootstrap capacitors. This pin needs to be very carefully and closely decoupled to the IC’s PGND pin. If the VDR potential i(See Datasheet)", 32 PGOOD (oc) "Open Drain Power Good Output. This open-drain output is pulled low during shutdown or when any of the three output voltages has been outside the PGOOD tolerance window for more than 100us.", 33 PHASEMD (in) "Phase Select Input. This pin controls the phase relationship between controller 1, controller 2, controller 3 and CLKOUT. When PHASEMD is ?oating, its value is around 1.6V, the three channels switch 120degrees out o(See Datasheet)", 39 EP (power) "Driver’s Power Ground. This pin connects directly to the sources of the bottom N-channel external MOSFETs and the (-) terminals of CIN. The backside exposed pad (QFN) must be soldered to PCB ground."

## LTC3773EUHF#PBF
designator U?
Triple Output Synchronous 3-Phase DC/DC Controller with Up / Down Tracking, 38-pin QFN (UHF-38), -40 to 85 degC, Pb-Free; Manufacturer: Linear Technology; PartNumber: LTC3773EUHF#PBF; Frequency Sync Range: 160kHz - 700kHz; Number of Outputs: 2; DatasheetVersion: Rev. B; PackageVersion: Rev. C, 06/2010; PackageReference: UHF-38; PackageDescription: 38-Pin Plastic QFN, Body 7 x 5 mm, Pitch 0.5 mm; Supplier 1: Digi-Key; Supplier Part Number 1: LTC3773EUHF#PBF-ND; Supplier 2: Farnell; Supplier Part Number 2: 2295138; Supplier 3: Newark; Supplier Part Number 3: 56M8380; RoHS: TRUE; Mounting Technology: Surface Mount; Code_JEDEC: MO-220; ComponentLink1Description: Manufacturer URL; ComponentLink1URL: http://www.linear.com/; ComponentLink2Description: Datasheet; ComponentLink2URL: http://cds.linear.com/docs/en/datasheet/3773fb.pdf; ComponentLink3Description: Package Specification; ComponentLink3URL: http://cds.linear.com/docs/en/packaging/QFN_38_05-08-1701.pdf
footprint LT-UHF-38_N (QFN, 38-Leads, Body 7.1x5.1mm, Pitch 0.5mm, Thermal Pad 3.15x5.15mm, IPC Medium Density)
footprint LT-UHF-38_L (QFN, 38-Leads, Body 7.1x5.1mm, Pitch 0.5mm, Thermal Pad 3.15x5.15mm, IPC High Density)
footprint LT-UHF-38_M (QFN, 38-Leads, Body 7.1x5.1mm, Pitch 0.5mm, Thermal Pad 3.15x5.15mm, IPC Low Density)
part A pins: 1 TRACK1 (in) "Channel 1 Tracking Input. TRACK1 is used for tracking multiple LTC3773s. See the Startup Tracking application. To disable this feature, ?oat this pin or tie it to VCC. TRACK1 provides a 1uA pull-up current. An externa(See Datasheet)", 2 VFB1 (in) "Channel 1 Error Ampli?er Feedback Input. This pin connects the error ampli?er input to an external resistive divider from VOUT1.", 3 ITH1 "Channel 1 Error Ampli?er Output and Switching Regulator Compensation Point. The current comparator’s threshold increases with this control voltage.", 22 BG1 (out) "Channel 1 Bottom Gate Drive. Drives the gate of the bottom N-channel MOSFET between ground and VDR.", 29 SW1 "Channel 1 Switching Node. The (-) terminal of the bootstrap capacitor connects here. This pin swings from a Schottky diode (external) voltage drop below ground to VIN (where VIN is the external MOSFET supply rail)", 30 TG1 (out) "Channel 1 Top Gate Drive. The TG1 pin drives the top N-channel MOSFET with a voltage swing equal to VDR superimposed on the switch node voltage SW.", 31 BOOST1 "Channel 1 Top Gate Driver Supply. The (+) terminal of the bootstrap capacitor connects here. This pin swings from approximately VDR up to VIN + VDR (where VIN is the external MOSFET supply rail).", 34 SENSE1+ (in) "The (+) Input to the Channel 1 Differential Current Comparator. The ITH1 pin voltage and controlled offsets between the SENSE1- and SENSE1+ pins in conjunction with RSENSE set the channel 1 current trip threshold", 35 SENSE1- (in) "The (-) Input to the Channel 1 Differential Current Comparator.", 36 SDB1 (in) "Shutdown, Active Low. For G package, SDB1, SDB2 and SDB3 are shorted at the SDB pin. The power up thresholds for channel 1, 2 and 3 are set at 1.2V, 1.8V and 2.4V respectively. By pulling the SDB1, SDB2 and SDB3 pins below 0.(See Datasheet)"
part B pins: 5 ITH2 "Channel 2 Error Ampli?er Output and Switching Regulator Compensation Point. See ITH1.", 7 VFB2 (in) "Channel 2 Error Ampli?er Feedback Input. See VFB1.", 9 TRACK2 (in) "Channel 2 Tracking Input. Tie the TRACK2 pin to a resistive divider connected to the output of channel 1 for either coincident or ratiometric output tracking. See the Soft-Start/Tracking application. TRACK2 comes with a 1uA (See Datasheet)", 11 SENSE2- (in) "The (-) Input to the Channel 2 Differential Current Comparator. See SENSE1- .", 12 SENSE2+ (in) "The (+) Input to the Channel 2 Differential Current Comparator. See SENSE1+ .", 21 BG2 (out) "Channel 2 Bottom Gate Drive. See BG1", 26 BOOST2 "Channel 2 Top Gate Driver Supply. See BOOST1.", 27 TG2 (out) "Channel 2 Top Gate Drive. See TG1.", 28 SW2 "Channel 2 Switching Node. See SW1.", 37 SDB2 (in) "Shutdown, Active Low. For G package, SDB1, SDB2 and SDB3 are shorted at the SDB pin. The power up thresholds for channel 1, 2 and 3 are set at 1.2V, 1.8V and 2.4V respectively. By pulling the SDB1, SDB2 and SDB3 pins below 0.(See Datasheet)"
part C pins: 6 ITH3 "Channel 3 Error Ampli?er Output and Switching Regulator Compensation Point. See ITH1.", 8 VFB3 (in) "Channel 3 Error Ampli?er Feedback Input. See VFB1.", 10 TRACK3 (in) "Channel 3 Tracking Input. See TRACK2.", 13 SENSE3- (in) "The (-) Input to the Channel 3 Differential Current Comparator. See SENSE1- .", 14 SENSE3+ (in) "The (+) Input to the Channel 3 Differential Current Comparator. See SENSE1+ .", 19 BG3 (out) "Channel 3 Bottom Gate Drive. See BG1.", 23 SW3 "Channel 3 Switching Node. See SW1.", 24 TG3 (out) "Channel 3 Top Gate Drive. See TG1.", 25 BOOST3 "Channel 3 Top Gate Driver Supply. See BOOST1.", 38 SDB3 (in) "Shutdown, Active Low. For G package, SDB1, SDB2 and SDB3 are shorted at the SDB pin. The power up thresholds for channel 1, 2 and 3 are set at 1.2V, 1.8V and 2.4V respectively. By pulling the SDB1, SDB2 and SDB3 pins below 0.(See Datasheet)"
part D pins: 4 SGND (power) "Signal Ground. This pin must be routed separately under the IC to the PGND pin and then to the main ground plane.", 15 VCC (power) "Main Input Supply. All internal circuits except the output drivers are powered from this pin. VCC should be connected to a low noise 5V power supply and should be bypassed to SGND with at least a 1uF capacitor in close (See Datasheet)", 16 PLLFLTR (in) "Phase-Locked Loop Lowpass Filter. The phase-locked loop’s lowpass ? lter is tied to this pin. Alternatively, when external frequency synchronizing is not used, this pin can be forced low, left ?oating or tied hi(See Datasheet)", 17 PLLIN/FC (in) "Synchronization Input to the Phase Detector and Forced Continuous Control Input. When ?oating, it sits around 1.6V, and the controller enters discontinuous mode operation at light load. Shorting this pin low or high fo(See Datasheet)", 18 CLKOUT (out) "CLK Output. Output clock signal available to synchronize other controller ICs for additional MOSFET controller stages/phases", 20 VDR (power) "Driver Supply. Provides supply to the drivers for the bottom gates. Also used for charging the bootstrap capacitors. This pin needs to be very carefully and closely decoupled to the IC’s PGND pin. If the VDR potential i(See Datasheet)", 32 PGOOD (oc) "Open Drain Power Good Output. This open-drain output is pulled low during shutdown or when any of the three output voltages has been outside the PGOOD tolerance window for more than 100us.", 33 PHASEMD (in) "Phase Select Input. This pin controls the phase relationship between controller 1, controller 2, controller 3 and CLKOUT. When PHASEMD is ?oating, its value is around 1.6V, the three channels switch 120degrees out o(See Datasheet)", 39 EP (power) "Driver’s Power Ground. This pin connects directly to the sources of the bottom N-channel external MOSFETs and the (-) terminals of CIN. The backside exposed pad (QFN) must be soldered to PCB ground."